# Altium footprint library CHXXX.pcblib: 166 footprints (part 7 of 11)
Each footprint in its own frame and in the unit in brackets; x right, y up, seen from the top. Pads: shape width x height; smd on the part's side, far side on the other; paste and mask are expansions set on the pad; w line width, h text height; cw(c..) or ccw(c..) is an arc to the next point about the centre after c.
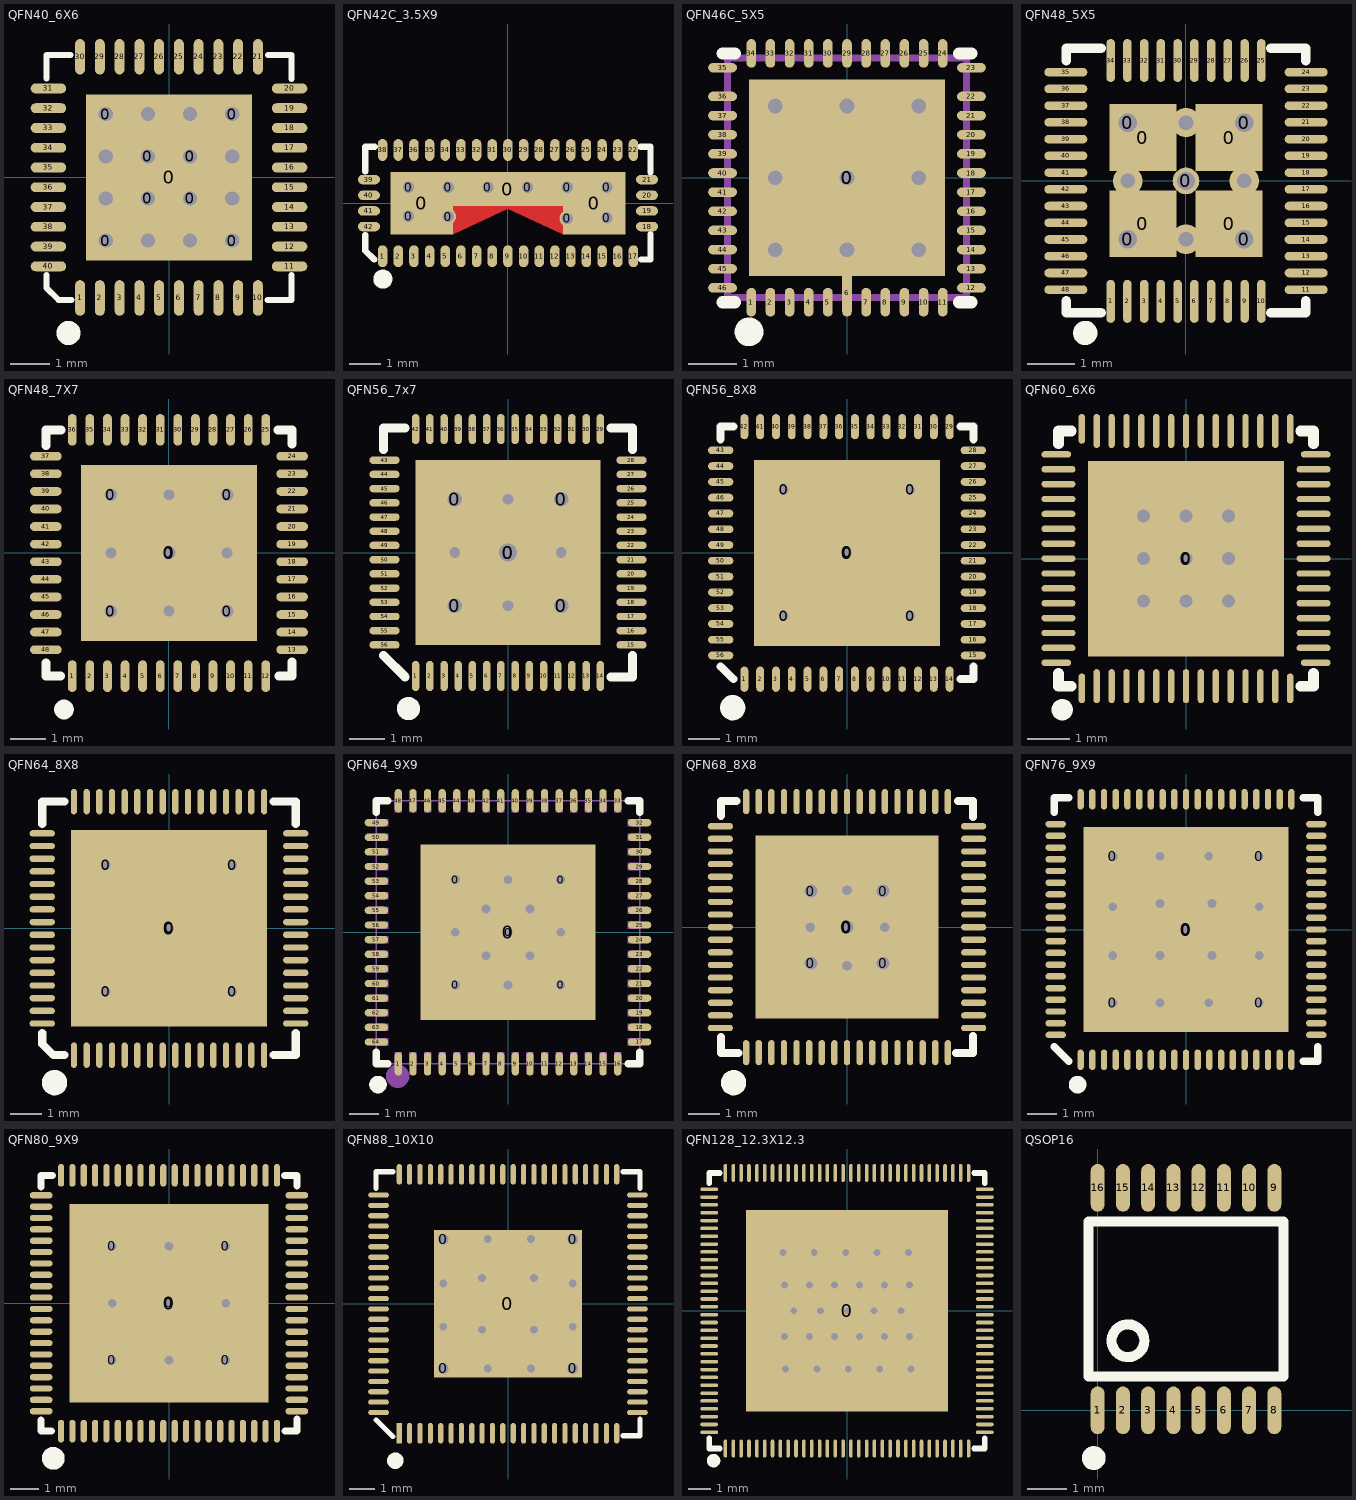
[diagram p6: the footprints below, top view; thin cyan lines are the x and y axes]

## QFN40_6X6 [mm]
pads (49):
  round 0.508 hole 0.356 mask+0.102: 0(-1.6,-1.6) 0(-1.6,1.6) 0(-0.533,-0.533) 0(-0.533,0.533) 0(0.533,-0.533) 0(0.533,0.533) 0(1.6,-1.6) 0(1.6,1.6)
  rect 4.2x4.2 smd mask+0.051: 0(0,0)
  oval 0.25x0.9 smd mask+0.051: 1(-2.25,-3.05) 2(-1.75,-3.05) 3(-1.25,-3.05) 4(-0.75,-3.05) 5(-0.25,-3.05) 6(0.25,-3.05) 7(0.75,-3.05) 8(1.25,-3.05) 9(1.75,-3.05) 10(2.25,-3.05) 21(2.25,3.05) 22(1.75,3.05) 23(1.25,3.05) 24(0.75,3.05) 25(0.25,3.05) 26(-0.25,3.05) 27(-0.75,3.05) 28(-1.25,3.05) 29(-1.75,3.05) 30(-2.25,3.05)
  oval 0.9x0.25 smd mask+0.051: 11(3.05,-2.25) 12(3.05,-1.75) 13(3.05,-1.25) 14(3.05,-0.75) 15(3.05,-0.25) 16(3.05,0.25) 17(3.05,0.75) 18(3.05,1.25) 19(3.05,1.75) 20(3.05,2.25) 31(-3.05,2.25) 32(-3.05,1.75) 33(-3.05,1.25) 34(-3.05,0.75) 35(-3.05,0.25) 36(-3.05,-0.25) 37(-3.05,-0.75) 38(-3.05,-1.25) 39(-3.05,-1.75) 40(-3.05,-2.25)
via -0.533,1.6 diameter 0.508 hole 0.356
via 0.533,1.6 diameter 0.508 hole 0.356
via 1.6,0.533 diameter 0.508 hole 0.356
via 1.6,-0.533 diameter 0.508 hole 0.356
via 0.533,-1.6 diameter 0.508 hole 0.356
via -0.533,-1.6 diameter 0.508 hole 0.356
via -1.6,0.533 diameter 0.508 hole 0.356
via -1.6,-0.533 diameter 0.508 hole 0.356
TopOverlay:
  circle w0.305: c-2.541,-3.936 r0.152
  lines w0.152: -3.1,-2.79 -3.1,-2.794 ; -3.1,-2.466 -3.1,-2.794 ; -3.1,2.501 -3.1,3.1 -2.493,3.1 ; -2.467,-3.1 -2.794,-3.1 -3.1,-2.794 ; 2.491,-3.1 3.1,-3.1 3.1,-2.476 ; 2.502,3.1 3.1,3.1 3.1,2.484

## QFN42C_3.5X9 [mm]
pads (55):
  round 0.508 hole 0.356 mask+0: 0(-3.176,-0.419) 0(-3.176,0.504) 0(-1.909,-0.429) 0(-1.909,0.504) 0(-0.642,0.504) 0(0.625,0.504) 0(1.892,-0.49) 0(1.892,0.504) 0(3.159,-0.469) 0(3.159,0.504)
  rect 2x2 smd: 0(-2.75,0) 0(2.75,0)
  rect 7.5x1.1 smd: 0(-0.002,0.45)
  oval 0.3x0.7 smd mask+0.051: 1(-4.002,-1.697) 2(-3.502,-1.697) 3(-3.002,-1.697) 4(-2.502,-1.697) 5(-2.002,-1.697) 6(-1.502,-1.697) 7(-1.002,-1.697) 8(-0.502,-1.697) 9(-0.002,-1.697) 10(0.498,-1.697) 11(0.998,-1.697) 12(1.498,-1.697) 13(2.002,-1.697) 14(2.502,-1.697) 15(3.002,-1.697) 16(3.502,-1.697) 17(4.002,-1.697) 22(4.002,1.697) 23(3.502,1.697) 24(3.002,1.697) 25(2.502,1.697) 26(2.002,1.697) 27(1.498,1.697) 28(0.998,1.697) 29(0.498,1.697) 30(-0.002,1.697) 31(-0.502,1.697) 32(-1.002,1.697) 33(-1.502,1.697) 34(-2.002,1.697) 35(-2.502,1.697) 36(-3.002,1.697) 37(-3.502,1.697) 38(-4.002,1.697)
  oval 0.7x0.3 smd mask+0.051: 18(4.438,-0.75) 19(4.438,-0.25) 20(4.438,0.25) 21(4.438,0.75) 39(-4.438,0.75) 40(-4.438,0.25) 41(-4.438,-0.25) 42(-4.438,-0.75)
TopLayer:
  region: 1.745,-1 1.745,0 -1.75,0 -1.75,-1 -0.002,-0.174
TopOverlay:
  circle w0.305: c-3.994,-2.425 r0.152
  lines w0.203: -4.552,-1.02 -4.552,-1.521 -4.273,-1.8 ; -4.552,1.01 -4.552,1.8 -4.25,1.8 ; 4.23,1.8 4.548,1.8 4.548,0.99 ; 4.25,-1.8 4.548,-1.8 4.548,-1
TopPaste:
  region: -1.75,-1 -0.002,-0.174 1.745,-1 2.356,-1 2.356,0 -2.36,0 -2.36,-1
TopSolder:
  region: -1.648,-1.102 -0.002,-0.323 1.644,-1.102 2.356,-1.102 2.356,0 -2.36,0 -2.36,-1.102

## QFN46C_5X5 [mm]
pads (48):
  rect 4.1x4.1 smd mask+0.051: 0(0,0)
  round 0.508 hole 0.305 mask+0.051: 0(0,0)
  oval 0.2x0.6 smd mask+0.051: 1(-2,-2.6) 2(-1.6,-2.6) 3(-1.2,-2.6) 4(-0.8,-2.6) 5(-0.4,-2.6) 7(0.4,-2.6) 8(0.8,-2.6) 9(1.2,-2.6) 10(1.6,-2.6) 11(2,-2.6) 24(2,2.6) 25(1.6,2.6) 26(1.2,2.6) 27(0.8,2.6) 28(0.4,2.6) 29(0,2.6) 30(-0.4,2.6) 31(-0.8,2.6) 32(-1.2,2.6) 33(-1.6,2.6) 34(-2,2.6)
  oval 0.2x1 smd mask+0.051: 6(0,-2.4)
  oval 0.6x0.2 smd mask+0.051: 12(2.6,-2.3) 13(2.6,-1.9) 14(2.6,-1.5) 15(2.6,-1.1) 16(2.6,-0.7) 17(2.6,-0.3) 18(2.6,0.1) 19(2.6,0.5) 20(2.6,0.9) 21(2.6,1.3) 22(2.6,1.7) 23(2.6,2.3) 35(-2.6,2.3) 36(-2.6,1.7) 37(-2.6,1.3) 38(-2.6,0.9) 39(-2.6,0.5) 40(-2.6,0.1) 41(-2.6,-0.3) 42(-2.6,-0.7) 43(-2.6,-1.1) 44(-2.6,-1.5) 45(-2.6,-1.9) 46(-2.6,-2.3)
via -1.5,1.5 diameter 0.61 hole 0.305
via 0,1.5 diameter 0.61 hole 0.305
via 1.5,1.5 diameter 0.61 hole 0.305
via 1.5,0 diameter 0.61 hole 0.305
via 1.5,-1.5 diameter 0.61 hole 0.305
via 0,-1.5 diameter 0.61 hole 0.305
via -1.5,-1.5 diameter 0.61 hole 0.305
via -1.5,0 diameter 0.61 hole 0.305
TopOverlay:
  circle w0.3: c-2.048,-3.218 r0.15
  lines w0.254: -2.6,-2.6 -2.343,-2.6 ; -2.6,2.6 -2.343,2.6 ; 2.343,-2.6 2.6,-2.6 ; 2.343,2.6 2.6,2.6
Mechanical15:
  lines w0.15: -2.5,-2.5 2.5,-2.5 2.5,2.5 -2.5,2.5 -2.5,-2.5

## QFN48_5X5 [mm]
pads (57):
  round 0.559 hole 0.381 mask+0.102: 0(-1.219,-1.219) 0(-1.219,1.219) 0(0,0) 0(1.219,-1.219) 0(1.219,1.219)
  rect 1.397x1.397 smd mask+0: 0(-0.901,-0.895) 0(-0.901,0.908) 0(0.902,-0.895) 0(0.902,0.908)
  oval 0.18x0.9 smd mask+0.051: 1(-1.575,-2.519) 2(-1.225,-2.519) 3(-0.875,-2.519) 4(-0.525,-2.519) 5(-0.175,-2.519) 6(0.175,-2.519) 7(0.525,-2.519) 8(0.875,-2.519) 9(1.225,-2.519) 10(1.575,-2.519) 25(1.575,2.519) 26(1.225,2.519) 27(0.875,2.519) 28(0.525,2.519) 29(0.175,2.519) 30(-0.175,2.519) 31(-0.525,2.519) 32(-0.875,2.519) 33(-1.225,2.519) 34(-1.575,2.519)
  oval 0.9x0.18 smd mask+0.051: 11(2.514,-2.275) 12(2.514,-1.925) 13(2.514,-1.575) 14(2.514,-1.225) 15(2.514,-0.875) 16(2.514,-0.525) 17(2.514,-0.175) 18(2.514,0.175) 19(2.514,0.525) 20(2.514,0.875) 21(2.514,1.225) 22(2.514,1.575) 23(2.514,1.925) 24(2.514,2.275) 35(-2.514,2.275) 36(-2.514,1.925) 37(-2.514,1.575) 38(-2.514,1.225) 39(-2.514,0.875) 40(-2.514,0.525) 41(-2.514,0.175) 42(-2.514,-0.175) 43(-2.514,-0.525) 44(-2.514,-0.875) 45(-2.514,-1.225) 46(-2.514,-1.575) 47(-2.514,-1.925) 48(-2.514,-2.275)
via 1.219,0 diameter 0.61 hole 0.305
via 0,-1.219 diameter 0.61 hole 0.305
via -1.219,0 diameter 0.61 hole 0.305
via 0,1.219 diameter 0.61 hole 0.305
TopOverlay:
  circle w0.254: c-2.108,-3.179 r0.127
  lines w0.2: -2.509,-2.506 -2.509,-2.76 -1.778,-2.76 ; -2.509,2.519 -2.509,2.772 -1.778,2.772 ; 1.778,-2.76 2.509,-2.76 2.509,-2.506 ; 1.778,2.772 2.509,2.772 2.509,2.519

## QFN48_7X7 [mm]
pads (54):
  round 0.559 hole 0.356 mask+0.102: 0(-1.651,-1.651) 0(-1.651,1.651) 0(0,0) 0(1.651,-1.651) 0(1.651,1.651)
  rect 5x5 smd mask+0.051: 0(0,0)
  oval 0.25x0.9 smd mask+0.051: 1(-2.75,-3.5) 2(-2.25,-3.5) 3(-1.75,-3.5) 4(-1.25,-3.5) 5(-0.75,-3.5) 6(-0.25,-3.5) 7(0.25,-3.5) 8(0.75,-3.5) 9(1.25,-3.5) 10(1.75,-3.5) 11(2.25,-3.5) 12(2.75,-3.5) 25(2.75,3.5) 26(2.25,3.5) 27(1.75,3.5) 28(1.25,3.5) 29(0.75,3.5) 30(0.25,3.5) 31(-0.25,3.5) 32(-0.75,3.5) 33(-1.25,3.5) 34(-1.75,3.5) 35(-2.25,3.5) 36(-2.75,3.5)
  oval 0.9x0.25 smd mask+0.051: 13(3.5,-2.75) 14(3.5,-2.25) 15(3.5,-1.75) 16(3.5,-1.25) 17(3.5,-0.75) 18(3.5,-0.25) 19(3.5,0.25) 20(3.5,0.75) 21(3.5,1.25) 22(3.5,1.75) 23(3.5,2.25) 24(3.5,2.75) 37(-3.5,2.75) 38(-3.5,2.25) 39(-3.5,1.75) 40(-3.5,1.25) 41(-3.5,0.75) 42(-3.5,0.25) 43(-3.5,-0.25) 44(-3.5,-0.75) 45(-3.5,-1.25) 46(-3.5,-1.75) 47(-3.5,-2.25) 48(-3.5,-2.75)
via -1.651,0 diameter 0.61 hole 0.305
via 0,1.651 diameter 0.61 hole 0.305
via 1.651,0 diameter 0.61 hole 0.305
via 0,-1.651 diameter 0.61 hole 0.305
TopOverlay:
  circle w0.305: c-2.986,-4.451 r0.127
  lines w0.254: -3.5,-3.128 -3.5,-3.5 -3.082,-3.5 ; -3.5,3.057 -3.5,3.5 -3.066,3.5 ; 3.099,3.5 3.5,3.5 3.5,3.096 ; 3.126,-3.5 3.5,-3.5 3.5,-3.104

## QFN56_7x7 [mm]
pads (62):
  round 0.762 hole 0.406: 0(-1.5,-1.5) 0(-1.5,1.5) 0(1.5,-1.5) 0(1.5,1.5)
  rect 5.2x5.2 smd mask+0.05: 0(0,0)
  round 0.889 hole 0.508: 0(0,0)
  oval 0.21x0.85 smd mask+0.051: 1(-2.6,-3.475) 2(-2.2,-3.475) 3(-1.8,-3.475) 4(-1.4,-3.475) 5(-1,-3.475) 6(-0.6,-3.475) 7(-0.2,-3.475) 8(0.2,-3.475) 9(0.6,-3.475) 10(1,-3.475) 11(1.4,-3.475) 12(1.8,-3.475) 13(2.2,-3.475) 14(2.6,-3.475) 29(2.6,3.475) 30(2.2,3.475) 31(1.8,3.475) 32(1.4,3.475) 33(1,3.475) 34(0.6,3.475) 35(0.2,3.475) 36(-0.2,3.475) 37(-0.6,3.475) 38(-1,3.475) 39(-1.4,3.475) 40(-1.8,3.475) 41(-2.2,3.475) 42(-2.6,3.475)
  oval 0.85x0.21 smd mask+0.051: 15(3.475,-2.6) 16(3.475,-2.2) 17(3.475,-1.8) 18(3.475,-1.4) 19(3.475,-1) 20(3.475,-0.6) 21(3.475,-0.2) 22(3.475,0.2) 23(3.475,0.6) 24(3.475,1) 25(3.475,1.4) 26(3.475,1.8) 27(3.475,2.2) 28(3.475,2.6) 43(-3.475,2.6) 44(-3.475,2.2) 45(-3.475,1.8) 46(-3.475,1.4) 47(-3.475,1) 48(-3.475,0.6) 49(-3.475,0.2) 50(-3.475,-0.2) 51(-3.475,-0.6) 52(-3.475,-1) 53(-3.475,-1.4) 54(-3.475,-1.8) 55(-3.475,-2.2) 56(-3.475,-2.6)
via -1.5,0 diameter 0.6 hole 0.3
via 0,1.5 diameter 0.6 hole 0.3
via 1.5,0 diameter 0.6 hole 0.3
via 0,-1.5 diameter 0.6 hole 0.3
TopOverlay:
  circle w0.35: c-2.803,-4.395 r0.15
  lines w0.254: -3.5,-2.899 -2.899,-3.5 ; -3.5,2.899 -3.5,3.5 -2.899,3.5 ; 2.899,-3.5 3.5,-3.5 3.5,-2.899 ; 2.899,3.5 3.5,3.5 3.5,2.899

## QFN56_8X8 [mm]
pads (62):
  round 0.61 hole 0.305 mask+0.051: 0(-2,-2) 0(-2,2) 0(0,0) 0(2,-2) 0(2,2)
  rect 5.9x5.9 smd mask+0.051: 0(0,0)
  oval 0.25x0.8 smd mask+0.051: 1(-3.25,-4) 2(-2.75,-4) 3(-2.25,-4) 4(-1.75,-4) 5(-1.25,-4) 6(-0.75,-4) 7(-0.25,-4) 8(0.25,-4) 9(0.75,-4) 10(1.25,-4) 11(1.75,-4) 12(2.25,-4) 13(2.75,-4) 14(3.25,-4) 29(3.25,4) 30(2.75,4) 31(2.25,4) 32(1.75,4) 33(1.25,4) 34(0.75,4) 35(0.25,4) 36(-0.25,4) 37(-0.75,4) 38(-1.25,4) 39(-1.75,4) 40(-2.25,4) 41(-2.75,4) 42(-3.25,4)
  oval 0.8x0.25 smd mask+0.051: 15(4,-3.25) 16(4,-2.75) 17(4,-2.25) 18(4,-1.75) 19(4,-1.25) 20(4,-0.75) 21(4,-0.25) 22(4,0.25) 23(4,0.75) 24(4,1.25) 25(4,1.75) 26(4,2.25) 27(4,2.75) 28(4,3.25) 43(-4,3.25) 44(-4,2.75) 45(-4,2.25) 46(-4,1.75) 47(-4,1.25) 48(-4,0.75) 49(-4,0.25) 50(-4,-0.25) 51(-4,-0.75) 52(-4,-1.25) 53(-4,-1.75) 54(-4,-2.25) 55(-4,-2.75) 56(-4,-3.25)
TopOverlay:
  circle w0.4: c-3.621,-4.903 r0.2
  lines w0.254: -4,-3.6 -3.6,-4 ; -4,3.6 -4,4 -3.6,4 ; 3.6,-4 4,-4 4,-3.6 ; 3.6,4 4,4 4,3.6

## QFN60_6X6 [mm]
pads (62):
  rect 4.6x4.6 smd mask+0.051: 0(0,0)
  round 0.45 hole 0.3 mask+0.051: 0(0,0)
  oval 0.15x0.7 smd mask+0.051: 1(-2.45,-3.05) 15(2.45,-3.05) 31(2.45,3.05) 45(-2.45,3.05)
  oval 0.15x0.8 smd mask+0.051: 2(-2.1,-3) 3(-1.75,-3) 4(-1.4,-3) 5(-1.05,-3) 6(-0.7,-3) 7(-0.35,-3) 8(0,-3) 9(0.35,-3) 10(0.7,-3) 11(1.05,-3) 12(1.4,-3) 13(1.75,-3) 14(2.1,-3) 32(2.1,3) 33(1.75,3) 34(1.4,3) 35(1.05,3) 36(0.7,3) 37(0.35,3) 38(0,3) 39(-0.35,3) 40(-0.7,3) 41(-1.05,3) 42(-1.4,3) 43(-1.75,3) 44(-2.1,3)
  oval 0.7x0.15 smd mask+0.051: 16(3.05,-2.45) 30(3.05,2.45) 46(-3.05,2.45) 60(-3.05,-2.45)
  oval 0.8x0.15 smd mask+0.051: 17(3,-2.1) 18(3,-1.75) 19(3,-1.4) 20(3,-1.05) 21(3,-0.7) 22(3,-0.35) 23(3,0) 24(3,0.35) 25(3,0.7) 26(3,1.05) 27(3,1.4) 28(3,1.75) 29(3,2.1) 47(-3,2.1) 48(-3,1.75) 49(-3,1.4) 50(-3,1.05) 51(-3,0.7) 52(-3,0.35) 53(-3,0) 54(-3,-0.35) 55(-3,-0.7) 56(-3,-1.05) 57(-3,-1.4) 58(-3,-1.75) 59(-3,-2.1)
via -1,1 diameter 0.45 hole 0.3
via 0,1 diameter 0.45 hole 0.3
via 1,1 diameter 0.45 hole 0.3
via 1,0 diameter 0.45 hole 0.3
via 1,-1 diameter 0.45 hole 0.3
via 0,-1 diameter 0.45 hole 0.3
via -1,-1 diameter 0.45 hole 0.3
via -1,0 diameter 0.45 hole 0.3
TopOverlay:
  circle w0.3: c-2.912,-3.555 r0.1
  lines w0.254: -3,-2.7 -3,-3 -2.7,-3 ; -3,2.7 -3,3 -2.7,3 ; 2.7,-3 3,-3 3,-2.7 ; 2.7,3 3,3 3,2.7

## QFN64_8X8 [mm]
pads (70):
  round 0.61 hole 0.305 mask+0.051: 0(-2,-2) 0(-2,2) 0(0,0) 0(2,-2) 0(2,2)
  rect 6.2x6.2 smd mask+0.051: 0(0,0)
  oval 0.2x0.8 smd mask+0.051: 1(-3,-4) 2(-2.6,-4) 3(-2.2,-4) 4(-1.8,-4) 5(-1.4,-4) 6(-1,-4) 7(-0.6,-4) 8(-0.2,-4) 9(0.2,-4) 10(0.6,-4) 11(1,-4) 12(1.4,-4) 13(1.8,-4) 14(2.2,-4) 15(2.6,-4) 16(3,-4) 33(3,4) 34(2.6,4) 35(2.2,4) 36(1.8,4) 37(1.4,4) 38(1,4) 39(0.6,4) 40(0.2,4) 41(-0.2,4) 42(-0.6,4) 43(-1,4) 44(-1.4,4) 45(-1.8,4) 46(-2.2,4) 47(-2.6,4) 48(-3,4)
  oval 0.8x0.2 smd mask+0.051: 17(4,-3) 18(4,-2.6) 19(4,-2.2) 20(4,-1.8) 21(4,-1.4) 22(4,-1) 23(4,-0.6) 24(4,-0.2) 25(4,0.2) 26(4,0.6) 27(4,1) 28(4,1.4) 29(4,1.8) 30(4,2.2) 31(4,2.6) 32(4,3) 49(-4,3) 50(-4,2.6) 51(-4,2.2) 52(-4,1.8) 53(-4,1.4) 54(-4,1) 55(-4,0.6) 56(-4,0.2) 57(-4,-0.2) 58(-4,-0.6) 59(-4,-1) 60(-4,-1.4) 61(-4,-1.8) 62(-4,-2.2) 63(-4,-2.6) 64(-4,-3)
TopOverlay:
  circle w0.4: c-3.613,-4.867 r0.2
  lines w0.254: -4,-3.3 -4,-3.65 -3.65,-4 -3.3,-4 ; -4,3.3 -4,4 -3.3,4 ; 3.3,-4 4,-4 4,-3.3 ; 3.3,4 4,4 4,3.3

## QFN64_9X9 [mm]
height 9.7
pads (70):
  round 0.508 hole 0.305 mask+0.051: 0(-1.8,-1.8) 0(-1.8,1.8) 0(0,0) 0(1.8,-1.8) 0(1.8,1.8)
  rect 6x6 smd mask+0.051: 0(0,0)
  oval 0.25x0.8 smd mask+0.051: 1(-3.75,-4.5) 2(-3.25,-4.5) 3(-2.75,-4.5) 4(-2.25,-4.5) 5(-1.75,-4.5) 6(-1.25,-4.5) 7(-0.75,-4.5) 8(-0.25,-4.5) 9(0.25,-4.5) 10(0.75,-4.5) 11(1.25,-4.5) 12(1.75,-4.5) 13(2.25,-4.5) 14(2.75,-4.5) 15(3.25,-4.5) 16(3.75,-4.5) 33(3.75,4.5) 34(3.25,4.5) 35(2.75,4.5) 36(2.25,4.5) 37(1.75,4.5) 38(1.25,4.5) 39(0.75,4.5) 40(0.25,4.5) 41(-0.25,4.5) 42(-0.75,4.5) 43(-1.25,4.5) 44(-1.75,4.5) 45(-2.25,4.5) 46(-2.75,4.5) 47(-3.25,4.5) 48(-3.75,4.5)
  oval 0.8x0.25 smd mask+0.051: 17(4.5,-3.75) 18(4.5,-3.25) 19(4.5,-2.75) 20(4.5,-2.25) 21(4.5,-1.75) 22(4.5,-1.25) 23(4.5,-0.75) 24(4.5,-0.25) 25(4.5,0.25) 26(4.5,0.75) 27(4.5,1.25) 28(4.5,1.75) 29(4.5,2.25) 30(4.5,2.75) 31(4.5,3.25) 32(4.5,3.75) 49(-4.5,3.75) 50(-4.5,3.25) 51(-4.5,2.75) 52(-4.5,2.25) 53(-4.5,1.75) 54(-4.5,1.25) 55(-4.5,0.75) 56(-4.5,0.25) 57(-4.5,-0.25) 58(-4.5,-0.75) 59(-4.5,-1.25) 60(-4.5,-1.75) 61(-4.5,-2.25) 62(-4.5,-2.75) 63(-4.5,-3.25) 64(-4.5,-3.75)
via 0,-1.8 diameter 0.6 hole 0.3
via 1.8,0 diameter 0.6 hole 0.3
via 0,1.8 diameter 0.6 hole 0.3
via -1.8,0 diameter 0.6 hole 0.3
via -0.75,-0.8 diameter 0.6 hole 0.3
via 0.75,-0.8 diameter 0.6 hole 0.3
via 0.75,0.8 diameter 0.6 hole 0.3
via -0.75,0.8 diameter 0.6 hole 0.3
TopOverlay:
  lines w0.254: -4.5,-4.106 -4.5,-4.5 -4.106,-4.5 ; -4.5,4.106 -4.5,4.5 -4.106,4.5 ; 4.106,-4.5 4.5,-4.5 4.5,-4.106 ; 4.106,4.5 4.5,4.5 4.5,4.106
  lines w0.3: -4.447,-5.057 ccw(c-4.445,-5.207) -4.443,-5.057
Mechanical6:
  circle w0.4: c-3.77,-4.92 r0.2
Mechanical15:
  drawing of 69 lines, arcs and shapes, not listed

## QFN68_8X8 [mm]
pads (74):
  round 0.559 hole 0.406: 0(-1.143,-1.143) 0(-1.143,1.143) 0(0,0) 0(1.143,-1.143) 0(1.143,1.143)
  rect 5.8x5.8 smd mask+0.051: 0(0,0)
  oval 0.2x0.8 smd mask+0.051: 1(-3.2,-3.982) 2(-2.8,-3.982) 3(-2.4,-3.982) 4(-2,-3.982) 5(-1.6,-3.982) 6(-1.2,-3.982) 7(-0.8,-3.982) 8(-0.4,-3.982) 9(0,-3.982) 10(0.4,-3.982) 11(0.8,-3.982) 12(1.2,-3.982) 13(1.6,-3.982) 14(2,-3.982) 15(2.4,-3.982) 16(2.8,-3.982) 17(3.2,-3.982) 35(3.2,3.982) 36(2.8,3.982) 37(2.4,3.982) 38(2,3.982) 39(1.6,3.982) 40(1.2,3.982) 41(0.8,3.982) 42(0.4,3.982) 43(0,3.982) 44(-0.4,3.982) 45(-0.8,3.982) 46(-1.2,3.982) 47(-1.6,3.982) 48(-2,3.982) 49(-2.4,3.982) 50(-2.8,3.982) 51(-3.2,3.982)
  oval 0.8x0.2 smd mask+0.051: 18(4.018,-3.2) 19(4.018,-2.8) 20(4.018,-2.4) 21(4.018,-2) 22(4.018,-1.6) 23(4.018,-1.2) 24(4.018,-0.8) 25(4.018,-0.4) 26(4.018,0) 27(4.018,0.4) 28(4.018,0.8) 29(4.018,1.2) 30(4.018,1.6) 31(4.018,2) 32(4.018,2.4) 33(4.018,2.8) 34(4.018,3.2) 52(-4.018,3.2) 53(-4.018,2.8) 54(-4.018,2.4) 55(-4.018,2) 56(-4.018,1.6) 57(-4.018,1.2) 58(-4.018,0.8) 59(-4.018,0.4) 60(-4.018,0) 61(-4.018,-0.4) 62(-4.018,-0.8) 63(-4.018,-1.2) 64(-4.018,-1.6) 65(-4.018,-2) 66(-4.018,-2.4) 67(-4.018,-2.8) 68(-4.018,-3.2)
via 0,1.168 diameter 0.61 hole 0.305
via -1.168,0 diameter 0.61 hole 0.305
via 0,-1.219 diameter 0.61 hole 0.305
via 1.194,0 diameter 0.61 hole 0.305
TopOverlay:
  circle w0.4: c-3.599,-4.935 r0.2
  lines w0.254: -4,-3.492 -4,-4 -3.447,-4 ; -4,3.534 -4,4 -3.503,4 ; 3.459,-4 4,-4 4,-3.458 ; 3.517,4 4,4 4,3.498

## QFN76_9X9 [mm]
pads (82):
  round 0.61 hole 0.305 mask+0.051: 0(-2.5,-2.5) 0(-2.5,2.5) 0(0,0) 0(2.5,-2.5) 0(2.5,2.5)
  rect 7x7 smd mask+0.051: 0(0,0)
  oval 0.22x0.7 smd mask+0.051: 1(-3.6,-4.45) 2(-3.2,-4.45) 3(-2.8,-4.45) 4(-2.4,-4.45) 5(-2,-4.45) 6(-1.6,-4.45) 7(-1.2,-4.45) 8(-0.8,-4.45) 9(-0.4,-4.45) 10(0,-4.45) 11(0.4,-4.45) 12(0.8,-4.45) 13(1.2,-4.45) 14(1.6,-4.45) 15(2,-4.45) 16(2.4,-4.45) 17(2.8,-4.45) 18(3.2,-4.45) 19(3.6,-4.45) 39(3.6,4.45) 40(3.2,4.45) 41(2.8,4.45) 42(2.4,4.45) 43(2,4.45) 44(1.6,4.45) 45(1.2,4.45) 46(0.8,4.45) 47(0.4,4.45) 48(0,4.45) 49(-0.4,4.45) 50(-0.8,4.45) 51(-1.2,4.45) 52(-1.6,4.45) 53(-2,4.45) 54(-2.4,4.45) 55(-2.8,4.45) 56(-3.2,4.45) 57(-3.6,4.45)
  oval 0.7x0.22 smd mask+0.051: 20(4.45,-3.6) 21(4.45,-3.2) 22(4.45,-2.8) 23(4.45,-2.4) 24(4.45,-2) 25(4.45,-1.6) 26(4.45,-1.2) 27(4.45,-0.8) 28(4.45,-0.4) 29(4.45,0) 30(4.45,0.4) 31(4.45,0.8) 32(4.45,1.2) 33(4.45,1.6) 34(4.45,2) 35(4.45,2.4) 36(4.45,2.8) 37(4.45,3.2) 38(4.45,3.6) 58(-4.45,3.6) 59(-4.45,3.2) 60(-4.45,2.8) 61(-4.45,2.4) 62(-4.45,2) 63(-4.45,1.6) 64(-4.45,1.2) 65(-4.45,0.8) 66(-4.45,0.4) 67(-4.45,0) 68(-4.45,-0.4) 69(-4.45,-0.8) 70(-4.45,-1.2) 71(-4.45,-1.6) 72(-4.45,-2) 73(-4.45,-2.4) 74(-4.45,-2.8) 75(-4.45,-3.2) 76(-4.45,-3.6)
via -0.889,0.887 diameter 0.6 hole 0.3
via -0.889,-0.887 diameter 0.6 hole 0.3
via 0.889,-0.887 diameter 0.6 hole 0.3
via 0.889,0.887 diameter 0.6 hole 0.3
via -0.889,2.5 diameter 0.6 hole 0.3
via 0.778,2.5 diameter 0.6 hole 0.3
via 2.5,0.778 diameter 0.6 hole 0.3
via 2.5,-0.889 diameter 0.6 hole 0.3
via 0.778,-2.5 diameter 0.6 hole 0.3
via -0.889,-2.5 diameter 0.6 hole 0.3
via -2.5,-0.889 diameter 0.6 hole 0.3
via -2.5,0.778 diameter 0.6 hole 0.3
TopOverlay:
  circle w0.3: c-3.704,-5.297 r0.15
  lines w0.254: -4.5,-4 -4,-4.5 ; -4.5,4 -4.5,4.5 -4,4.5 ; 4,-4.5 4.5,-4.5 4.5,-4 ; 4,4.5 4.5,4.5 4.5,4

## QFN80_9X9 [mm]
pads (86):
  round 0.61 hole 0.305 mask+0.051: 0(-2,-2) 0(-2,2) 0(0,0) 0(2,-2) 0(2,2)
  rect 7x7 smd mask+0.051: 0(0,0)
  oval 0.22x0.8 smd mask+0.051: 1(-3.8,-4.5) 2(-3.4,-4.5) 3(-3,-4.5) 4(-2.6,-4.5) 5(-2.2,-4.5) 6(-1.8,-4.5) 7(-1.4,-4.5) 8(-1,-4.5) 9(-0.6,-4.5) 10(-0.2,-4.5) 11(0.2,-4.5) 12(0.6,-4.5) 13(1,-4.5) 14(1.4,-4.5) 15(1.8,-4.5) 16(2.2,-4.5) 17(2.6,-4.5) 18(3,-4.5) 19(3.4,-4.5) 20(3.8,-4.5) 41(3.8,4.5) 42(3.4,4.5) 43(3,4.5) 44(2.6,4.5) 45(2.2,4.5) 46(1.8,4.5) 47(1.4,4.5) 48(1,4.5) 49(0.6,4.5) 50(0.2,4.5) 51(-0.2,4.5) 52(-0.6,4.5) 53(-1,4.5) 54(-1.4,4.5) 55(-1.8,4.5) 56(-2.2,4.5) 57(-2.6,4.5) 58(-3,4.5) 59(-3.4,4.5) 60(-3.8,4.5)
  oval 0.8x0.22 smd mask+0.051: 21(4.5,-3.8) 22(4.5,-3.4) 23(4.5,-3) 24(4.5,-2.6) 25(4.5,-2.2) 26(4.5,-1.8) 27(4.5,-1.4) 28(4.5,-1) 29(4.5,-0.6) 30(4.5,-0.2) 31(4.5,0.2) 32(4.5,0.6) 33(4.5,1) 34(4.5,1.4) 35(4.5,1.8) 36(4.5,2.2) 37(4.5,2.6) 38(4.5,3) 39(4.5,3.4) 40(4.5,3.8) 61(-4.5,3.8) 62(-4.5,3.4) 63(-4.5,3) 64(-4.5,2.6) 65(-4.5,2.2) 66(-4.5,1.8) 67(-4.5,1.4) 68(-4.5,1) 69(-4.5,0.6) 70(-4.5,0.2) 71(-4.5,-0.2) 72(-4.5,-0.6) 73(-4.5,-1) 74(-4.5,-1.4) 75(-4.5,-1.8) 76(-4.5,-2.2) 77(-4.5,-2.6) 78(-4.5,-3) 79(-4.5,-3.4) 80(-4.5,-3.8)
via -2,0 diameter 0.6 hole 0.3
via 0,-2 diameter 0.6 hole 0.3
via 2,0 diameter 0.6 hole 0.3
via 0,2 diameter 0.6 hole 0.3
TopOverlay:
  circle w0.4: c-4.073,-5.457 r0.2
  lines w0.254: -4.5,-4.121 -4.5,-4.5 -4.135,-4.5 ; -4.5,4.095 -4.5,4.5 -4.095,4.5 ; 4.069,4.5 4.5,4.5 4.5,4.137 ; 4.082,-4.5 4.5,-4.5 4.5,-4.079

## QFN88_10X10 [mm]
pads (93):
  round 0.711 hole 0.406 mask+0.051: 0(-2.5,-2.5) 0(-2.5,2.5) 0(2.5,-2.5) 0(2.5,2.5)
  rect 5.7x5.7 smd mask+0.051: 0(0,0)
  rect 0.2x0.8 smd mask+0.051: 1(-4.2,-5)
  oval 0.2x0.8 smd mask+0.051: 2(-3.8,-5) 3(-3.4,-5) 4(-3,-5) 5(-2.6,-5) 6(-2.2,-5) 7(-1.8,-5) 8(-1.4,-5) 9(-1,-5) 10(-0.6,-5) 11(-0.2,-5) 12(0.2,-5) 13(0.6,-5) 14(1,-5) 15(1.4,-5) 16(1.8,-5) 17(2.2,-5) 18(2.6,-5) 19(3,-5) 20(3.4,-5) 21(3.8,-5) 22(4.2,-5) 45(4.2,5) 46(3.8,5) 47(3.4,5) 48(3,5) 49(2.6,5) 50(2.2,5) 51(1.8,5) 52(1.4,5) 53(1,5) 54(0.6,5) 55(0.2,5) 56(-0.2,5) 57(-0.6,5) 58(-1,5) 59(-1.4,5) 60(-1.8,5) 61(-2.2,5) 62(-2.6,5) 63(-3,5) 64(-3.4,5) 65(-3.8,5) 66(-4.2,5)
  oval 0.8x0.2 smd mask+0.051: 23(5,-4.2) 24(5,-3.8) 25(5,-3.4) 26(5,-3) 27(5,-2.6) 28(5,-2.2) 29(5,-1.8) 30(5,-1.4) 31(5,-1) 32(5,-0.6) 33(5,-0.2) 34(5,0.2) 35(5,0.6) 36(5,1) 37(5,1.4) 38(5,1.8) 39(5,2.2) 40(5,2.6) 41(5,3) 42(5,3.4) 43(5,3.8) 44(5,4.2) 67(-5,4.2) 68(-5,3.8) 69(-5,3.4) 70(-5,3) 71(-5,2.6) 72(-5,2.2) 73(-5,1.8) 74(-5,1.4) 75(-5,1) 76(-5,0.6) 77(-5,0.2) 78(-5,-0.2) 79(-5,-0.6) 80(-5,-1) 81(-5,-1.4) 82(-5,-1.8) 83(-5,-2.2) 84(-5,-2.6) 85(-5,-3) 86(-5,-3.4) 87(-5,-3.8) 88(-5,-4.2)
via 1,1 diameter 0.6 hole 0.3
via 1,-1 diameter 0.6 hole 0.3
via -1,-1 diameter 0.6 hole 0.3
via -1,1 diameter 0.6 hole 0.3
via -0.783,2.5 diameter 0.6 hole 0.3
via 2.5,0.783 diameter 0.6 hole 0.3
via 2.5,-0.884 diameter 0.6 hole 0.3
via -2.5,0.783 diameter 0.6 hole 0.3
via 0.884,2.5 diameter 0.6 hole 0.3
via -2.5,-0.884 diameter 0.6 hole 0.3
via -0.783,-2.5 diameter 0.6 hole 0.3
via 0.884,-2.5 diameter 0.6 hole 0.3
TopOverlay:
  circle w0.381: c-4.352,-6.062 r0.127
  lines w0.2: -5.1,4.45 -5.1,5.1 -4.45,5.1 ; 4.45,-5.1 5.1,-5.1 5.1,-4.45 ; 4.45,5.1 5.1,5.1 5.1,4.45
  lines w0.203: -5.089,-4.492 -4.454,-5.127

## QFN128_12.3X12.3 [mm]
pads (129):
  rect 9x9 smd mask+0.051: 0(0,0)
  oval 0.16x0.8 smd mask+0.051: 1(-5.425,-6.15) 2(-5.075,-6.15) 3(-4.725,-6.15) 4(-4.375,-6.15) 5(-4.025,-6.15) 6(-3.675,-6.15) 7(-3.325,-6.15) 8(-2.975,-6.15) 9(-2.625,-6.15) 10(-2.275,-6.15) 11(-1.925,-6.15) 12(-1.575,-6.15) 13(-1.225,-6.15) 14(-0.875,-6.15) 15(-0.525,-6.15) 16(-0.175,-6.15) 17(0.175,-6.15) 18(0.525,-6.15) 19(0.875,-6.15) 20(1.225,-6.15) 21(1.575,-6.15) 22(1.925,-6.15) 23(2.275,-6.15) 24(2.625,-6.15) 25(2.975,-6.15) 26(3.325,-6.15) 27(3.675,-6.15) 28(4.025,-6.15) 29(4.375,-6.15) 30(4.725,-6.15) 31(5.075,-6.15) 32(5.425,-6.15) 65(5.425,6.15) 66(5.075,6.15) 67(4.725,6.15) 68(4.375,6.15) 69(4.025,6.15) 70(3.675,6.15) 71(3.325,6.15) 72(2.975,6.15) 73(2.625,6.15) 74(2.275,6.15) 75(1.925,6.15) 76(1.575,6.15) 77(1.225,6.15) 78(0.875,6.15) 79(0.525,6.15) 80(0.175,6.15) 81(-0.175,6.15) 82(-0.525,6.15) 83(-0.875,6.15) 84(-1.225,6.15) 85(-1.575,6.15) 86(-1.925,6.15) 87(-2.275,6.15) 88(-2.625,6.15) 89(-2.975,6.15) 90(-3.325,6.15) 91(-3.675,6.15) 92(-4.025,6.15) 93(-4.375,6.15) 94(-4.725,6.15) 95(-5.075,6.15) 96(-5.425,6.15)
  oval 0.8x0.16 smd mask+0.051: 33(6.15,-5.425) 34(6.15,-5.075) 35(6.15,-4.725) 36(6.15,-4.375) 37(6.15,-4.025) 38(6.15,-3.675) 39(6.15,-3.325) 40(6.15,-2.975) 41(6.15,-2.625) 42(6.15,-2.275) 43(6.15,-1.925) 44(6.15,-1.575) 45(6.15,-1.225) 46(6.15,-0.875) 47(6.15,-0.525) 48(6.15,-0.175) 49(6.15,0.175) 50(6.15,0.525) 51(6.15,0.875) 52(6.15,1.225) 53(6.15,1.575) 54(6.15,1.925) 55(6.15,2.275) 56(6.15,2.625) 57(6.15,2.975) 58(6.15,3.325) 59(6.15,3.675) 60(6.15,4.025) 61(6.15,4.375) 62(6.15,4.725) 63(6.15,5.075) 64(6.15,5.425) 97(-6.15,5.425) 98(-6.15,5.075) 99(-6.15,4.725) 100(-6.15,4.375) 101(-6.15,4.025) 102(-6.15,3.675) 103(-6.15,3.325) 104(-6.15,2.975) 105(-6.15,2.625) 106(-6.15,2.275) 107(-6.15,1.925) 108(-6.15,1.575) 109(-6.15,1.225) 110(-6.15,0.875) 111(-6.15,0.525) 112(-6.15,0.175) 113(-6.15,-0.175) 114(-6.15,-0.525) 115(-6.15,-0.875) 116(-6.15,-1.225) 117(-6.15,-1.575) 118(-6.15,-1.925) 119(-6.15,-2.275) 120(-6.15,-2.625) 121(-6.15,-2.975) 122(-6.15,-3.325) 123(-6.15,-3.675) 124(-6.15,-4.025) 125(-6.15,-4.375) 126(-6.15,-4.725) 127(-6.15,-5.075) 128(-6.15,-5.425)
via -1.459,2.6 diameter 0.508 hole 0.305
via -1.671,1.153 diameter 0.508 hole 0.305
via 1.346,2.6 diameter 0.508 hole 0.305
via 1.671,1.153 diameter 0.508 hole 0.305
via -2.786,1.153 diameter 0.508 hole 0.305
via -0.557,1.153 diameter 0.508 hole 0.305
via 0.557,1.153 diameter 0.508 hole 0.305
via 2.786,1.153 diameter 0.508 hole 0.305
via -0.057,2.6 diameter 0.508 hole 0.305
via 1.459,-2.6 diameter 0.508 hole 0.305
via 1.671,-1.153 diameter 0.508 hole 0.305
via -1.346,-2.6 diameter 0.508 hole 0.305
via -1.671,-1.153 diameter 0.508 hole 0.305
via 2.786,-1.153 diameter 0.508 hole 0.305
via 0.557,-1.153 diameter 0.508 hole 0.305
via -0.557,-1.153 diameter 0.508 hole 0.305
via -2.786,-1.153 diameter 0.508 hole 0.305
via 0.057,-2.6 diameter 0.508 hole 0.305
via -1.183,0 diameter 0.508 hole 0.305
via -2.379,0 diameter 0.508 hole 0.305
via 1.209,0 diameter 0.508 hole 0.305
via 2.406,0 diameter 0.508 hole 0.305
via 2.862,-2.6 diameter 0.508 hole 0.305
via -2.748,-2.6 diameter 0.508 hole 0.305
via -2.862,2.6 diameter 0.508 hole 0.305
via 2.748,2.6 diameter 0.508 hole 0.305
via 0.013,0 diameter 0.508 hole 0.305
TopOverlay:
  circle w0.3: c-5.957,-6.69 r0.15
  lines w0.254: -6.15,-5.685 -6.15,-6.15 -5.685,-6.15 ; -6.15,5.685 -6.15,6.15 -5.685,6.15 ; 5.685,-6.15 6.15,-6.15 6.15,-5.685 ; 5.685,6.15 6.15,6.15 6.15,5.685

## QSOP16 [mm]
pads (16):
  oval 0.35x1.2 smd mask+0.051: 1(0,0) 2(0.635,0) 3(1.27,0) 4(1.905,0) 5(2.54,0) 6(3.175,0) 7(3.81,0) 8(4.445,0) 9(4.445,5.6) 10(3.81,5.6) 11(3.175,5.6) 12(2.54,5.6) 13(1.905,5.6) 14(1.27,5.6) 15(0.635,5.6) 16(0,5.6)
TopOverlay:
  circle w0.3: c-0.1,-1.2 r0.15
  circle w0.254: c0.762,1.752 r0.412
  lines w0.254: -0.227,0.85 -0.227,4.75 4.673,4.75 4.673,0.85 -0.227,0.85